# Altium integrated library Linear Technology Comparators.IntLib: 630 symbols (part 13 of 24)
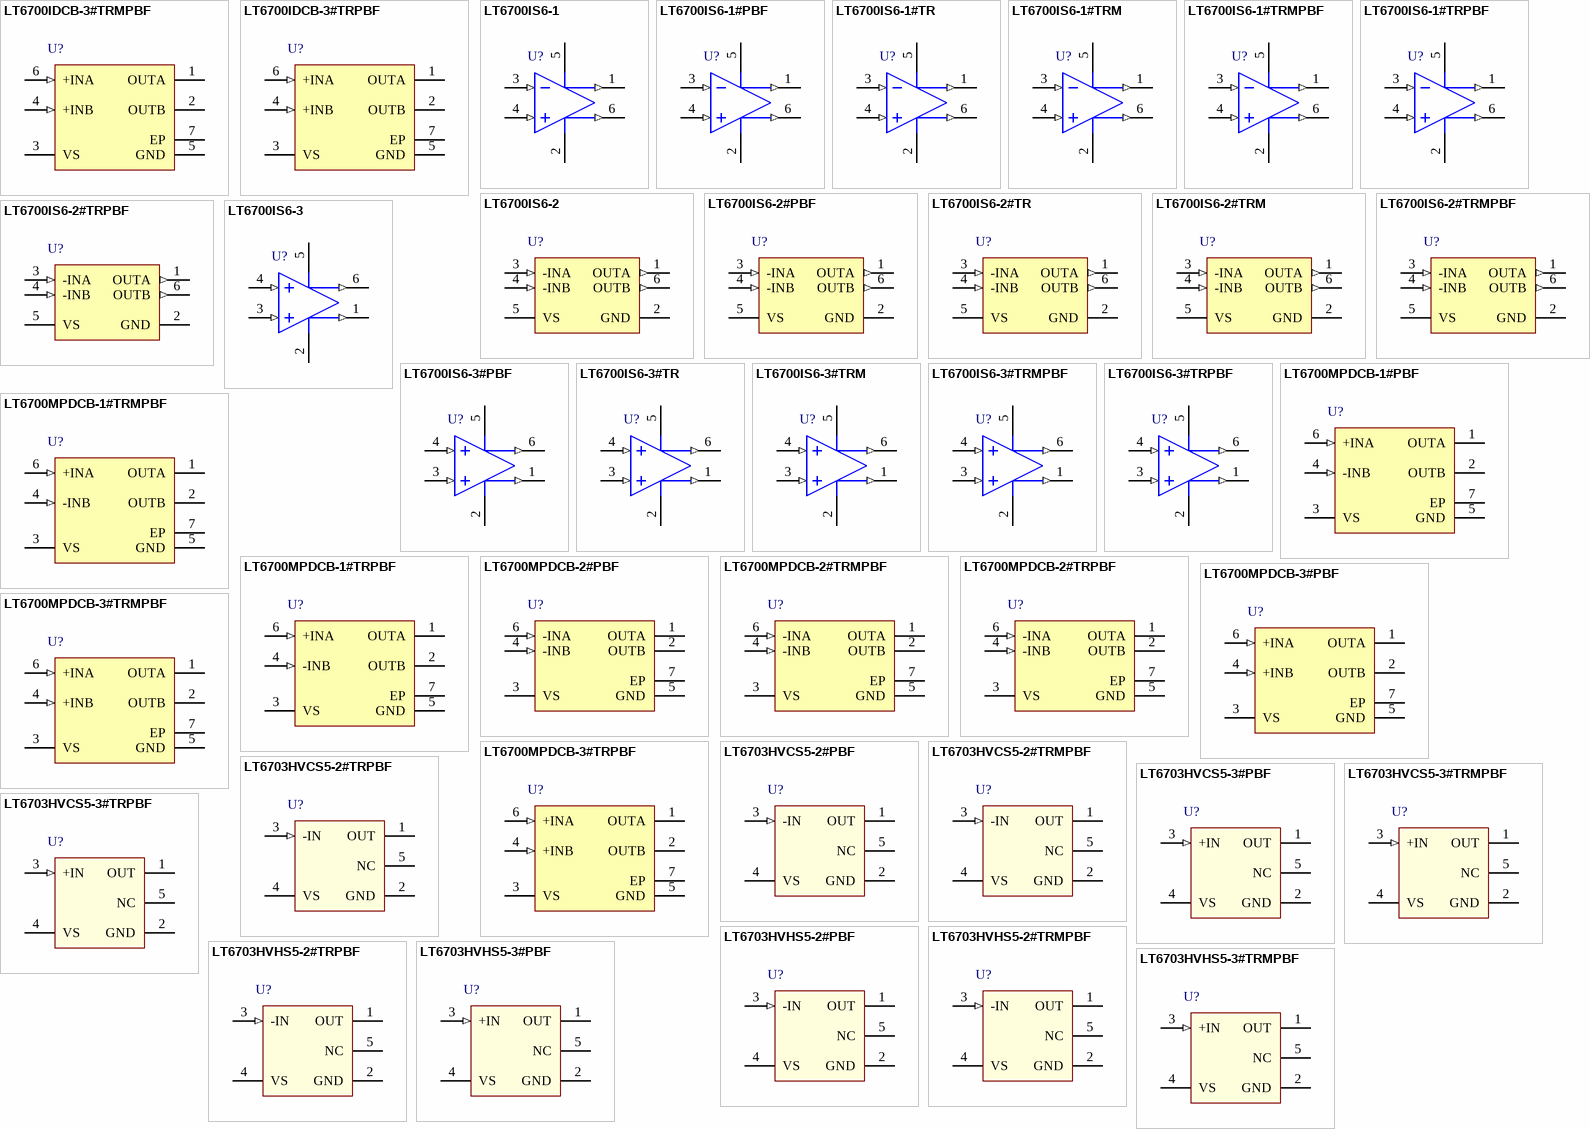
[diagram p36: symbols LT6700IDCB-3#TRMPBF to LT6703HVHS5-3#TRMPBF]

## LT6703HVCS5-3#PBF
designator U?
Micropower, Low Voltage Comparator with 400 mV Reference, 1 Channel, 1.4 to 36 V, 0 to +70 degC, 5-pin Plastic TSOT-23 (S5); Generic Part Number: LT6703HV-3; Manufacturer: Linear Technology; PartNumber: LT6703HVCS5-3#PBF; Channels (#): 1; Prop Delay (us): 18; Supply Current (uA) Guaranteed: 11; Supply Current (uA) Typical: 6.5; Vos (mV) Typical: 5; Vs Max (V): 36; Vs Min (V): 1.4; DatasheetVersion: Rev D; PackageReference: S5; PackageDescription: 5-Pin Plastic TSOT-23, Body 2.9 x 1.63 mm, Pitch 0.95 mm; Supplier 1: Newark; Supplier Part Number 1: 78T4307; Features: Comparator, Reference, Over-the-Top Inputs; RoHS: Y; Supply Voltage Range: 1.4 to 36 V; Mounting Technology: Surface Mount; Code_JEDEC: MO-193; ComponentLink1Description: Manufacturer URL; ComponentLink1URL: http://www.linear.com/; ComponentLink2Description: Datasheet; ComponentLink2URL: http://cds.linear.com/docs/en/datasheet/670323fd.pdf; ComponentLink3Description: Package Specification; ComponentLink3URL: http://cds.linear.com/docs/en/packaging/SOT_5_05-08-1635.pdf
footprint LT-S5_N (SOT-23, 5-Leads, Body 2.9x1.63mm, Pitch 0.95mm, IPC Medium Density)
footprint LT-S5_L (SOT-23, 5-Leads, Body 2.9x1.63mm, Pitch 0.95mm, IPC High Density)
footprint LT-S5_M (SOT-23, 5-Leads, Body 2.9x1.63mm, Pitch 0.95mm, IPC Low Density)
pins: 1 OUT (oc) "Open-Collector Output of Comparator. This pin provides drive for up to 40mA of load current. Off-state voltage may be as high as 36V above GND, regardless of VS used.", 2 GND (power) "Ground. This pin is also the low side return of the internal 400mV reference.", 3 +IN (in) "External Input for Comparator. The voltage on this pin can range from -0.3V to 36V with respect to GND regardless of VS used. The input is noninverting for the LT6703-3/LT6703HV-3, and inverting for the LT6703-2/LT6703HV-2. (See Datasheet)", 4 VS (power) "Supply Voltage. The parts are characterized for operation with 1.4V =< VS =< 18V with respect to GND.", 5 NC

## LT6703HVCS5-3#TRMPBF
designator U?
Micropower, Low Voltage Comparator with 400 mV Reference, 1 Channel, 1.4 to 36 V, 0 to +70 degC, 5-pin Plastic TSOT-23 (S5), Mini Tape and Reel; Generic Part Number: LT6703HV-3; Manufacturer: Linear Technology; PartNumber: LT6703HVCS5-3#TRMPBF; Channels (#): 1; Prop Delay (us): 18; Supply Current (uA) Guaranteed: 11; Supply Current (uA) Typical: 6.5; Vos (mV) Typical: 5; Vs Max (V): 36; Vs Min (V): 1.4; DatasheetVersion: Rev D; PackageReference: S5; PackageDescription: 5-Pin Plastic TSOT-23, Body 2.9 x 1.63 mm, Pitch 0.95 mm; Supplier 1: Digi-Key; Supplier Part Number 1: LT6703HVCS5-3#TRMPBF-ND; Supplier 2: Newark; Supplier Part Number 2: 02P7691; Features: Comparator, Reference, Over-the-Top Inputs; RoHS: Y; Supply Voltage Range: 1.4 to 36 V; Mounting Technology: Surface Mount; Code_JEDEC: MO-193; ComponentLink1Description: Manufacturer URL; ComponentLink1URL: http://www.linear.com/; ComponentLink2Description: Datasheet; ComponentLink2URL: http://cds.linear.com/docs/en/datasheet/670323fd.pdf; ComponentLink3Description: Package Specification; ComponentLink3URL: http://cds.linear.com/docs/en/packaging/SOT_5_05-08-1635.pdf
footprint LT-S5_N (SOT-23, 5-Leads, Body 2.9x1.63mm, Pitch 0.95mm, IPC Medium Density)
footprint LT-S5_L (SOT-23, 5-Leads, Body 2.9x1.63mm, Pitch 0.95mm, IPC High Density)
footprint LT-S5_M (SOT-23, 5-Leads, Body 2.9x1.63mm, Pitch 0.95mm, IPC Low Density)
pins: 1 OUT (oc) "Open-Collector Output of Comparator. This pin provides drive for up to 40mA of load current. Off-state voltage may be as high as 36V above GND, regardless of VS used.", 2 GND (power) "Ground. This pin is also the low side return of the internal 400mV reference.", 3 +IN (in) "External Input for Comparator. The voltage on this pin can range from -0.3V to 36V with respect to GND regardless of VS used. The input is noninverting for the LT6703-3/LT6703HV-3, and inverting for the LT6703-2/LT6703HV-2. (See Datasheet)", 4 VS (power) "Supply Voltage. The parts are characterized for operation with 1.4V =< VS =< 18V with respect to GND.", 5 NC

## LT6703HVCS5-3#TRPBF
designator U?
Micropower, Low Voltage Comparator with 400 mV Reference, 1 Channel, 1.4 to 36 V, 0 to +70 degC, 5-pin Plastic TSOT-23 (S5), Tape and Reel; Generic Part Number: LT6703HV-3; Manufacturer: Linear Technology; PartNumber: LT6703HVCS5-3#TRPBF; Channels (#): 1; Prop Delay (us): 18; Supply Current (uA) Guaranteed: 11; Supply Current (uA) Typical: 6.5; Vos (mV) Typical: 5; Vs Max (V): 36; Vs Min (V): 1.4; DatasheetVersion: Rev D; PackageReference: S5; PackageDescription: 5-Pin Plastic TSOT-23, Body 2.9 x 1.63 mm, Pitch 0.95 mm; Supplier 1: Digi-Key; Supplier Part Number 1: LT6703HVCS5-3#TRPBF-ND; Supplier 2: Newark; Supplier Part Number 2: 02P7692; Features: Comparator, Reference, Over-the-Top Inputs; RoHS: Y; Supply Voltage Range: 1.4 to 36 V; Mounting Technology: Surface Mount; Code_JEDEC: MO-193; ComponentLink1Description: Manufacturer URL; ComponentLink1URL: http://www.linear.com/; ComponentLink2Description: Datasheet; ComponentLink2URL: http://cds.linear.com/docs/en/datasheet/670323fd.pdf; ComponentLink3Description: Package Specification; ComponentLink3URL: http://cds.linear.com/docs/en/packaging/SOT_5_05-08-1635.pdf
footprint LT-S5_N (SOT-23, 5-Leads, Body 2.9x1.63mm, Pitch 0.95mm, IPC Medium Density)
footprint LT-S5_L (SOT-23, 5-Leads, Body 2.9x1.63mm, Pitch 0.95mm, IPC High Density)
footprint LT-S5_M (SOT-23, 5-Leads, Body 2.9x1.63mm, Pitch 0.95mm, IPC Low Density)
pins: 1 OUT (oc) "Open-Collector Output of Comparator. This pin provides drive for up to 40mA of load current. Off-state voltage may be as high as 36V above GND, regardless of VS used.", 2 GND (power) "Ground. This pin is also the low side return of the internal 400mV reference.", 3 +IN (in) "External Input for Comparator. The voltage on this pin can range from -0.3V to 36V with respect to GND regardless of VS used. The input is noninverting for the LT6703-3/LT6703HV-3, and inverting for the LT6703-2/LT6703HV-2. (See Datasheet)", 4 VS (power) "Supply Voltage. The parts are characterized for operation with 1.4V =< VS =< 18V with respect to GND.", 5 NC

## LT6703HVHS5-2#PBF
designator U?
Micropower, Low Voltage Comparator with 400 mV Reference, 1 Channel, 1.4 to 36 V, -40 to +125 degC, 5-pin Plastic TSOT-23 (S5); Generic Part Number: LT6703HV-2; Manufacturer: Linear Technology; PartNumber: LT6703HVHS5-2#PBF; Channels (#): 1; Prop Delay (us): 18; Supply Current (uA) Guaranteed: 11; Supply Current (uA) Typical: 6.5; Vos (mV) Typical: 5; Vs Max (V): 36; Vs Min (V): 1.4; DatasheetVersion: Rev D; PackageReference: S5; PackageDescription: 5-Pin Plastic TSOT-23, Body 2.9 x 1.63 mm, Pitch 0.95 mm; Features: Comparator, Reference, Over-the-Top Inputs; RoHS: Y; Supply Voltage Range: 1.4 to 36 V; Mounting Technology: Surface Mount; Code_JEDEC: MO-193; ComponentLink1Description: Manufacturer URL; ComponentLink1URL: http://www.linear.com/; ComponentLink2Description: Datasheet; ComponentLink2URL: http://cds.linear.com/docs/en/datasheet/670323fd.pdf; ComponentLink3Description: Package Specification; ComponentLink3URL: http://cds.linear.com/docs/en/packaging/SOT_5_05-08-1635.pdf
footprint LT-S5_N (SOT-23, 5-Leads, Body 2.9x1.63mm, Pitch 0.95mm, IPC Medium Density)
footprint LT-S5_L (SOT-23, 5-Leads, Body 2.9x1.63mm, Pitch 0.95mm, IPC High Density)
footprint LT-S5_M (SOT-23, 5-Leads, Body 2.9x1.63mm, Pitch 0.95mm, IPC Low Density)
pins: 1 OUT (oc) "Open-Collector Output of Comparator. This pin provides drive for up to 40mA of load current. Off-state voltage may be as high as 36V above GND, regardless of VS used.", 2 GND (power) "Ground. This pin is also the low side return of the internal 400mV reference.", 3 -IN (in) "External Input for Comparator. The voltage on this pin can range from -0.3V to 36V with respect to GND regardless of VS used. The input is noninverting for the LT6703-3/LT6703HV-3, and inverting for the LT6703-2/LT6703HV-2. (See Datasheet)", 4 VS (power) "Supply Voltage. The parts are characterized for operation with 1.4V =< VS =< 18V with respect to GND", 5 NC

## LT6703HVHS5-2#TRMPBF
designator U?
Micropower, Low Voltage Comparator with 400 mV Reference, 1 Channel, 1.4 to 36 V, -40 to +125 degC, 5-pin Plastic TSOT-23 (S5), Mini Tape and Reel; Generic Part Number: LT6703HV-2; Manufacturer: Linear Technology; PartNumber: LT6703HVHS5-2#TRMPBF; Channels (#): 1; Prop Delay (us): 18; Supply Current (uA) Guaranteed: 11; Supply Current (uA) Typical: 6.5; Vos (mV) Typical: 5; Vs Max (V): 36; Vs Min (V): 1.4; DatasheetVersion: Rev D; PackageReference: S5; PackageDescription: 5-Pin Plastic TSOT-23, Body 2.9 x 1.63 mm, Pitch 0.95 mm; Supplier 1: Digi-Key; Supplier Part Number 1: LT6703HVHS5-2#TRMPBF-ND; Supplier 2: Newark; Supplier Part Number 2: 02P7693; Features: Comparator, Reference, Over-the-Top Inputs; RoHS: Y; Supply Voltage Range: 1.4 to 36 V; Mounting Technology: Surface Mount; Code_JEDEC: MO-193; ComponentLink1Description: Manufacturer URL; ComponentLink1URL: http://www.linear.com/; ComponentLink2Description: Datasheet; ComponentLink2URL: http://cds.linear.com/docs/en/datasheet/670323fd.pdf; ComponentLink3Description: Package Specification; ComponentLink3URL: http://cds.linear.com/docs/en/packaging/SOT_5_05-08-1635.pdf
footprint LT-S5_N (SOT-23, 5-Leads, Body 2.9x1.63mm, Pitch 0.95mm, IPC Medium Density)
footprint LT-S5_L (SOT-23, 5-Leads, Body 2.9x1.63mm, Pitch 0.95mm, IPC High Density)
footprint LT-S5_M (SOT-23, 5-Leads, Body 2.9x1.63mm, Pitch 0.95mm, IPC Low Density)
pins: 1 OUT (oc) "Open-Collector Output of Comparator. This pin provides drive for up to 40mA of load current. Off-state voltage may be as high as 36V above GND, regardless of VS used.", 2 GND (power) "Ground. This pin is also the low side return of the internal 400mV reference.", 3 -IN (in) "External Input for Comparator. The voltage on this pin can range from -0.3V to 36V with respect to GND regardless of VS used. The input is noninverting for the LT6703-3/LT6703HV-3, and inverting for the LT6703-2/LT6703HV-2. (See Datasheet)", 4 VS (power) "Supply Voltage. The parts are characterized for operation with 1.4V =< VS =< 18V with respect to GND", 5 NC

## LT6703HVHS5-2#TRPBF
designator U?
Micropower, Low Voltage Comparator with 400 mV Reference, 1 Channel, 1.4 to 36 V, -40 to +125 degC, 5-pin Plastic TSOT-23 (S5), Tape and Reel; Generic Part Number: LT6703HV-2; Manufacturer: Linear Technology; PartNumber: LT6703HVHS5-2#TRPBF; Channels (#): 1; Prop Delay (us): 18; Supply Current (uA) Guaranteed: 11; Supply Current (uA) Typical: 6.5; Vos (mV) Typical: 5; Vs Max (V): 36; Vs Min (V): 1.4; DatasheetVersion: Rev D; PackageReference: S5; PackageDescription: 5-Pin Plastic TSOT-23, Body 2.9 x 1.63 mm, Pitch 0.95 mm; Supplier 1: Digi-Key; Supplier Part Number 1: LT6703HVHS5-2#TRPBF-ND; Supplier 2: Newark; Supplier Part Number 2: 02P7694; Features: Comparator, Reference, Over-the-Top Inputs; RoHS: Y; Supply Voltage Range: 1.4 to 36 V; Mounting Technology: Surface Mount; Code_JEDEC: MO-193; ComponentLink1Description: Manufacturer URL; ComponentLink1URL: http://www.linear.com/; ComponentLink2Description: Datasheet; ComponentLink2URL: http://cds.linear.com/docs/en/datasheet/670323fd.pdf; ComponentLink3Description: Package Specification; ComponentLink3URL: http://cds.linear.com/docs/en/packaging/SOT_5_05-08-1635.pdf
footprint LT-S5_N (SOT-23, 5-Leads, Body 2.9x1.63mm, Pitch 0.95mm, IPC Medium Density)
footprint LT-S5_L (SOT-23, 5-Leads, Body 2.9x1.63mm, Pitch 0.95mm, IPC High Density)
footprint LT-S5_M (SOT-23, 5-Leads, Body 2.9x1.63mm, Pitch 0.95mm, IPC Low Density)
pins: 1 OUT (oc) "Open-Collector Output of Comparator. This pin provides drive for up to 40mA of load current. Off-state voltage may be as high as 36V above GND, regardless of VS used.", 2 GND (power) "Ground. This pin is also the low side return of the internal 400mV reference.", 3 -IN (in) "External Input for Comparator. The voltage on this pin can range from -0.3V to 36V with respect to GND regardless of VS used. The input is noninverting for the LT6703-3/LT6703HV-3, and inverting for the LT6703-2/LT6703HV-2. (See Datasheet)", 4 VS (power) "Supply Voltage. The parts are characterized for operation with 1.4V =< VS =< 18V with respect to GND", 5 NC

## LT6703HVHS5-3#PBF
designator U?
Micropower, Low Voltage Comparator with 400 mV Reference, 1 Channel, 1.4 to 36 V, -40 to +125 degC, 5-pin Plastic TSOT-23 (S5); Generic Part Number: LT6703HV-3; Manufacturer: Linear Technology; PartNumber: LT6703HVHS5-3#PBF; Channels (#): 1; Prop Delay (us): 18; Supply Current (uA) Guaranteed: 11; Supply Current (uA) Typical: 6.5; Vos (mV) Typical: 5; Vs Max (V): 36; Vs Min (V): 1.4; DatasheetVersion: Rev D; PackageReference: S5; PackageDescription: 5-Pin Plastic TSOT-23, Body 2.9 x 1.63 mm, Pitch 0.95 mm; Features: Comparator, Reference, Over-the-Top Inputs; RoHS: Y; Supply Voltage Range: 1.4 to 36 V; Mounting Technology: Surface Mount; Code_JEDEC: MO-193; ComponentLink1Description: Manufacturer URL; ComponentLink1URL: http://www.linear.com/; ComponentLink2Description: Datasheet; ComponentLink2URL: http://cds.linear.com/docs/en/datasheet/670323fd.pdf; ComponentLink3Description: Package Specification; ComponentLink3URL: http://cds.linear.com/docs/en/packaging/SOT_5_05-08-1635.pdf
footprint LT-S5_N (SOT-23, 5-Leads, Body 2.9x1.63mm, Pitch 0.95mm, IPC Medium Density)
footprint LT-S5_L (SOT-23, 5-Leads, Body 2.9x1.63mm, Pitch 0.95mm, IPC High Density)
footprint LT-S5_M (SOT-23, 5-Leads, Body 2.9x1.63mm, Pitch 0.95mm, IPC Low Density)
pins: 1 OUT (oc) "Open-Collector Output of Comparator. This pin provides drive for up to 40mA of load current. Off-state voltage may be as high as 36V above GND, regardless of VS used.", 2 GND (power) "Ground. This pin is also the low side return of the internal 400mV reference.", 3 +IN (in) "External Input for Comparator. The voltage on this pin can range from -0.3V to 36V with respect to GND regardless of VS used. The input is noninverting for the LT6703-3/LT6703HV-3, and inverting for the LT6703-2/LT6703HV-2. (See Datasheet)", 4 VS (power) "Supply Voltage. The parts are characterized for operation with 1.4V =< VS =< 18V with respect to GND.", 5 NC

## LT6703HVHS5-3#TRMPBF
designator U?
Micropower, Low Voltage Comparator with 400 mV Reference, 1 Channel, 1.4 to 36 V, -40 to +125 degC, 5-pin Plastic TSOT-23 (S5), Mini Tape and Reel; Generic Part Number: LT6703HV-3; Manufacturer: Linear Technology; PartNumber: LT6703HVHS5-3#TRMPBF; Channels (#): 1; Prop Delay (us): 18; Supply Current (uA) Guaranteed: 11; Supply Current (uA) Typical: 6.5; Vos (mV) Typical: 5; Vs Max (V): 36; Vs Min (V): 1.4; DatasheetVersion: Rev D; PackageReference: S5; PackageDescription: 5-Pin Plastic TSOT-23, Body 2.9 x 1.63 mm, Pitch 0.95 mm; Supplier 1: Digi-Key; Supplier Part Number 1: LT6703HVHS5-3#TRMPBF-ND; Supplier 2: Newark; Supplier Part Number 2: 02P7695; Features: Comparator, Reference, Over-the-Top Inputs; RoHS: Y; Supply Voltage Range: 1.4 to 36 V; Mounting Technology: Surface Mount; Code_JEDEC: MO-193; ComponentLink1Description: Manufacturer URL; ComponentLink1URL: http://www.linear.com/; ComponentLink2Description: Datasheet; ComponentLink2URL: http://cds.linear.com/docs/en/datasheet/670323fd.pdf; ComponentLink3Description: Package Specification; ComponentLink3URL: http://cds.linear.com/docs/en/packaging/SOT_5_05-08-1635.pdf
footprint LT-S5_N (SOT-23, 5-Leads, Body 2.9x1.63mm, Pitch 0.95mm, IPC Medium Density)
footprint LT-S5_L (SOT-23, 5-Leads, Body 2.9x1.63mm, Pitch 0.95mm, IPC High Density)
footprint LT-S5_M (SOT-23, 5-Leads, Body 2.9x1.63mm, Pitch 0.95mm, IPC Low Density)
pins: 1 OUT (oc) "Open-Collector Output of Comparator. This pin provides drive for up to 40mA of load current. Off-state voltage may be as high as 36V above GND, regardless of VS used.", 2 GND (power) "Ground. This pin is also the low side return of the internal 400mV reference.", 3 +IN (in) "External Input for Comparator. The voltage on this pin can range from -0.3V to 36V with respect to GND regardless of VS used. The input is noninverting for the LT6703-3/LT6703HV-3, and inverting for the LT6703-2/LT6703HV-2. (See Datasheet)", 4 VS (power) "Supply Voltage. The parts are characterized for operation with 1.4V =< VS =< 18V with respect to GND.", 5 NC

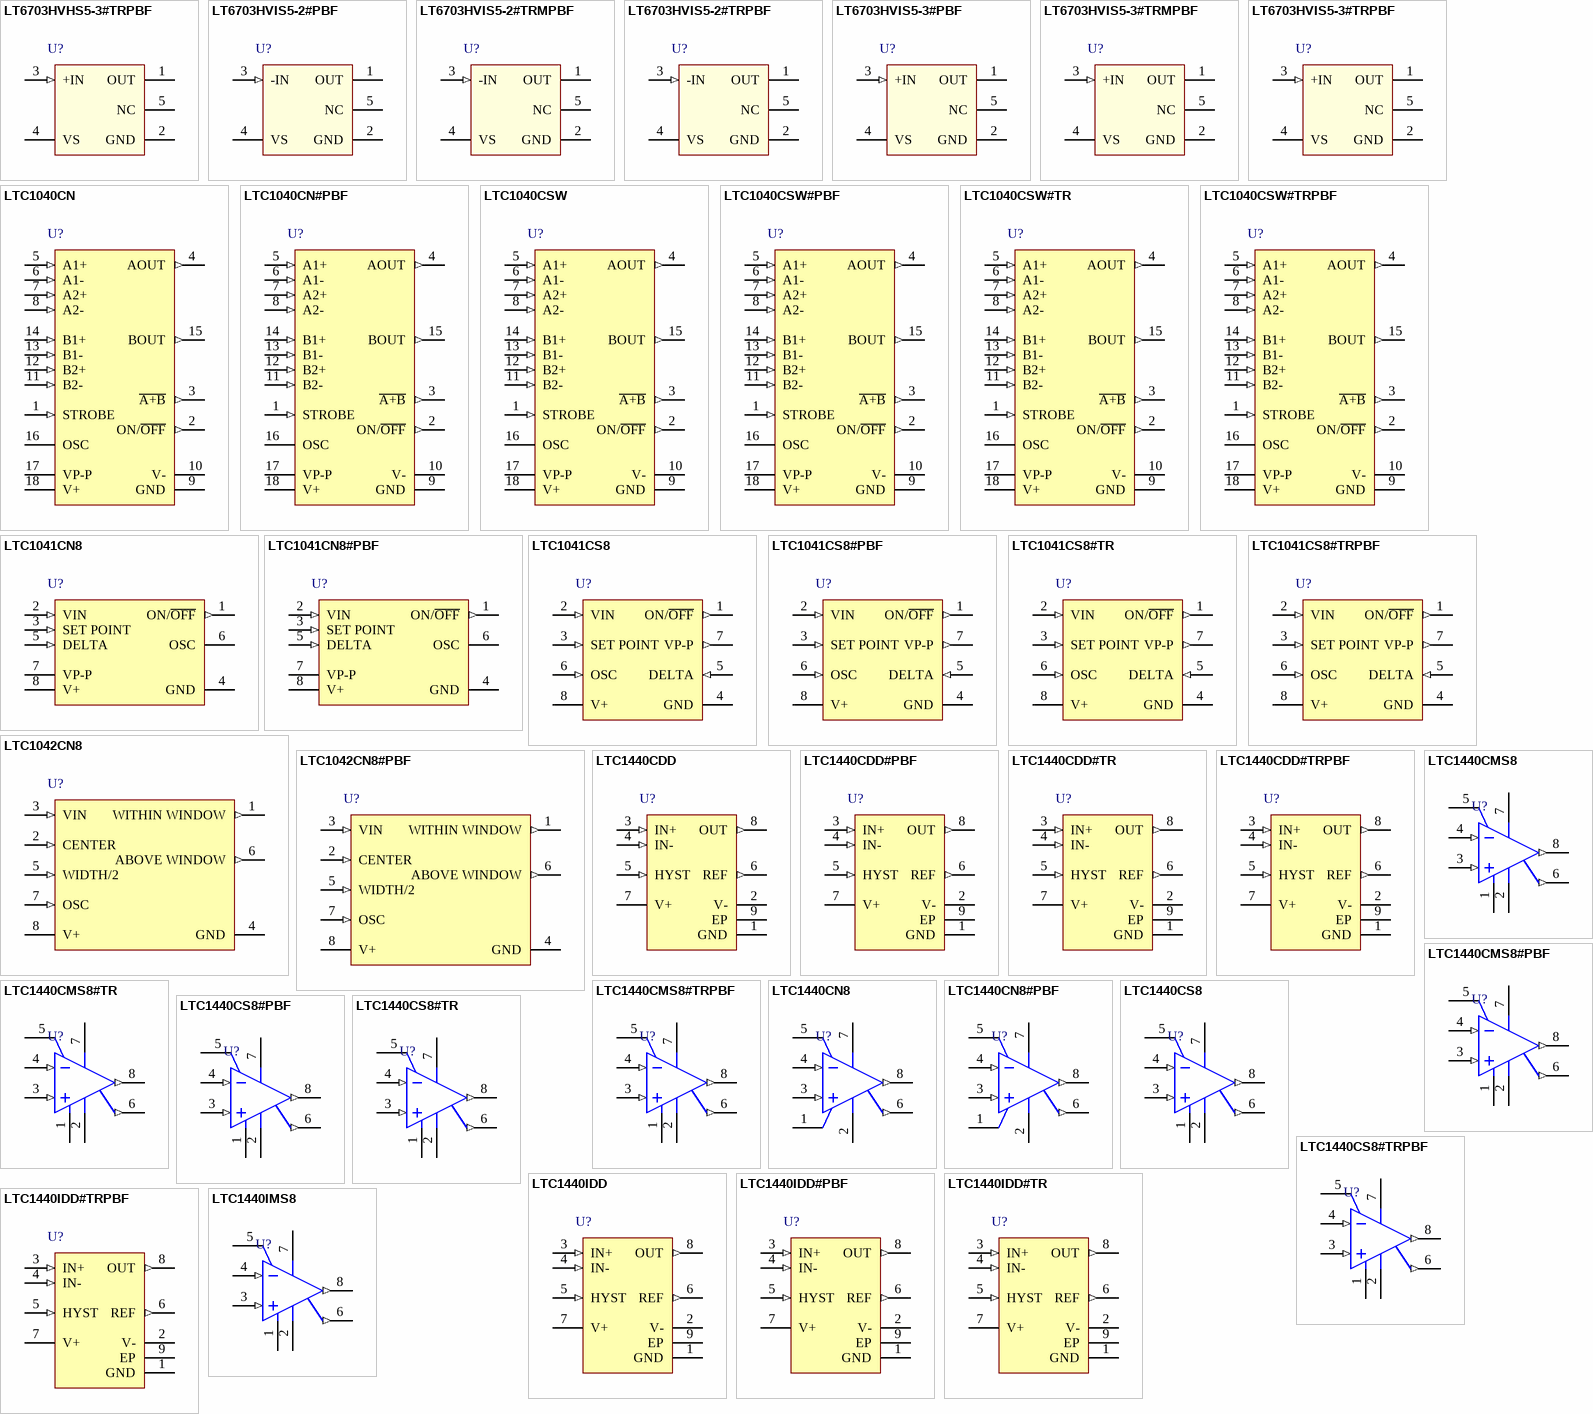
[diagram p12: symbols LT6703HVHS5-3#TRPBF to LTC1440IMS8]

## LT6703HVHS5-3#TRPBF
designator U?
Micropower, Low Voltage Comparator with 400 mV Reference, 1 Channel, 1.4 to 36 V, -40 to +125 degC, 5-pin Plastic TSOT-23 (S5), Tape and Reel; Generic Part Number: LT6703HV-3; Manufacturer: Linear Technology; PartNumber: LT6703HVHS5-3#TRPBF; Channels (#): 1; Prop Delay (us): 18; Supply Current (uA) Guaranteed: 11; Supply Current (uA) Typical: 6.5; Vos (mV) Typical: 5; Vs Max (V): 36; Vs Min (V): 1.4; DatasheetVersion: Rev D; PackageReference: S5; PackageDescription: 5-Pin Plastic TSOT-23, Body 2.9 x 1.63 mm, Pitch 0.95 mm; Supplier 1: Digi-Key; Supplier Part Number 1: LT6703HVHS5-3#TRPBF-ND; Features: Comparator, Reference, Over-the-Top Inputs; RoHS: Y; Supply Voltage Range: 1.4 to 36 V; Mounting Technology: Surface Mount; Code_JEDEC: MO-193; ComponentLink1Description: Manufacturer URL; ComponentLink1URL: http://www.linear.com/; ComponentLink2Description: Datasheet; ComponentLink2URL: http://cds.linear.com/docs/en/datasheet/670323fd.pdf; ComponentLink3Description: Package Specification; ComponentLink3URL: http://cds.linear.com/docs/en/packaging/SOT_5_05-08-1635.pdf
footprint LT-S5_N (SOT-23, 5-Leads, Body 2.9x1.63mm, Pitch 0.95mm, IPC Medium Density)
footprint LT-S5_L (SOT-23, 5-Leads, Body 2.9x1.63mm, Pitch 0.95mm, IPC High Density)
footprint LT-S5_M (SOT-23, 5-Leads, Body 2.9x1.63mm, Pitch 0.95mm, IPC Low Density)
pins: 1 OUT (oc) "Open-Collector Output of Comparator. This pin provides drive for up to 40mA of load current. Off-state voltage may be as high as 36V above GND, regardless of VS used.", 2 GND (power) "Ground. This pin is also the low side return of the internal 400mV reference.", 3 +IN (in) "External Input for Comparator. The voltage on this pin can range from -0.3V to 36V with respect to GND regardless of VS used. The input is noninverting for the LT6703-3/LT6703HV-3, and inverting for the LT6703-2/LT6703HV-2. (See Datasheet)", 4 VS (power) "Supply Voltage. The parts are characterized for operation with 1.4V =< VS =< 18V with respect to GND.", 5 NC

## LT6703HVIS5-2#PBF
designator U?
Micropower, Low Voltage Comparator with 400 mV Reference, 1 Channel, 1.4 to 36 V, -40 to +85 degC, 5-pin Plastic TSOT-23 (S5); Generic Part Number: LT6703HV-2; Manufacturer: Linear Technology; PartNumber: LT6703HVIS5-2#PBF; Channels (#): 1; Prop Delay (us): 18; Supply Current (uA) Guaranteed: 11; Supply Current (uA) Typical: 6.5; Vos (mV) Typical: 5; Vs Max (V): 36; Vs Min (V): 1.4; DatasheetVersion: Rev D; PackageReference: S5; PackageDescription: 5-Pin Plastic TSOT-23, Body 2.9 x 1.63 mm, Pitch 0.95 mm; Features: Comparator, Reference, Over-the-Top Inputs; RoHS: Y; Supply Voltage Range: 1.4 to 36 V; Mounting Technology: Surface Mount; Code_JEDEC: MO-193; ComponentLink1Description: Manufacturer URL; ComponentLink1URL: http://www.linear.com/; ComponentLink2Description: Datasheet; ComponentLink2URL: http://cds.linear.com/docs/en/datasheet/670323fd.pdf; ComponentLink3Description: Package Specification; ComponentLink3URL: http://cds.linear.com/docs/en/packaging/SOT_5_05-08-1635.pdf
footprint LT-S5_N (SOT-23, 5-Leads, Body 2.9x1.63mm, Pitch 0.95mm, IPC Medium Density)
footprint LT-S5_L (SOT-23, 5-Leads, Body 2.9x1.63mm, Pitch 0.95mm, IPC High Density)
footprint LT-S5_M (SOT-23, 5-Leads, Body 2.9x1.63mm, Pitch 0.95mm, IPC Low Density)
pins: 1 OUT (oc) "Open-Collector Output of Comparator. This pin provides drive for up to 40mA of load current. Off-state voltage may be as high as 36V above GND, regardless of VS used.", 2 GND (power) "Ground. This pin is also the low side return of the internal 400mV reference.", 3 -IN (in) "External Input for Comparator. The voltage on this pin can range from -0.3V to 36V with respect to GND regardless of VS used. The input is noninverting for the LT6703-3/LT6703HV-3, and inverting for the LT6703-2/LT6703HV-2. (See Datasheet)", 4 VS (power) "Supply Voltage. The parts are characterized for operation with 1.4V =< VS =< 18V with respect to GND", 5 NC

## LT6703HVIS5-2#TRMPBF
designator U?
Micropower, Low Voltage Comparator with 400 mV Reference, 1 Channel, 1.4 to 36 V, -40 to +85 degC, 5-pin Plastic TSOT-23 (S5), Mini Tape and Reel; Generic Part Number: LT6703HV-2; Manufacturer: Linear Technology; PartNumber: LT6703HVIS5-2#TRMPBF; Channels (#): 1; Prop Delay (us): 18; Supply Current (uA) Guaranteed: 11; Supply Current (uA) Typical: 6.5; Vos (mV) Typical: 5; Vs Max (V): 36; Vs Min (V): 1.4; DatasheetVersion: Rev D; PackageReference: S5; PackageDescription: 5-Pin Plastic TSOT-23, Body 2.9 x 1.63 mm, Pitch 0.95 mm; Supplier 1: Digi-Key; Supplier Part Number 1: LT6703HVIS5-2#TRMPBF-ND; Supplier 2: Newark; Supplier Part Number 2: 15N5503; Features: Comparator, Reference, Over-the-Top Inputs; RoHS: Y; Supply Voltage Range: 1.4 to 36 V; Mounting Technology: Surface Mount; Code_JEDEC: MO-193; ComponentLink1Description: Manufacturer URL; ComponentLink1URL: http://www.linear.com/; ComponentLink2Description: Datasheet; ComponentLink2URL: http://cds.linear.com/docs/en/datasheet/670323fd.pdf; ComponentLink3Description: Package Specification; ComponentLink3URL: http://cds.linear.com/docs/en/packaging/SOT_5_05-08-1635.pdf
footprint LT-S5_N (SOT-23, 5-Leads, Body 2.9x1.63mm, Pitch 0.95mm, IPC Medium Density)
footprint LT-S5_L (SOT-23, 5-Leads, Body 2.9x1.63mm, Pitch 0.95mm, IPC High Density)
footprint LT-S5_M (SOT-23, 5-Leads, Body 2.9x1.63mm, Pitch 0.95mm, IPC Low Density)
pins: 1 OUT (oc) "Open-Collector Output of Comparator. This pin provides drive for up to 40mA of load current. Off-state voltage may be as high as 36V above GND, regardless of VS used.", 2 GND (power) "Ground. This pin is also the low side return of the internal 400mV reference.", 3 -IN (in) "External Input for Comparator. The voltage on this pin can range from -0.3V to 36V with respect to GND regardless of VS used. The input is noninverting for the LT6703-3/LT6703HV-3, and inverting for the LT6703-2/LT6703HV-2. (See Datasheet)", 4 VS (power) "Supply Voltage. The parts are characterized for operation with 1.4V =< VS =< 18V with respect to GND", 5 NC

## LT6703HVIS5-2#TRPBF
designator U?
Micropower, Low Voltage Comparator with 400 mV Reference, 1 Channel, 1.4 to 36 V, -40 to +85 degC, 5-pin Plastic TSOT-23 (S5), Tape and Reel; Generic Part Number: LT6703HV-2; Manufacturer: Linear Technology; PartNumber: LT6703HVIS5-2#TRPBF; Channels (#): 1; Prop Delay (us): 18; Supply Current (uA) Guaranteed: 11; Supply Current (uA) Typical: 6.5; Vos (mV) Typical: 5; Vs Max (V): 36; Vs Min (V): 1.4; DatasheetVersion: Rev D; PackageReference: S5; PackageDescription: 5-Pin Plastic TSOT-23, Body 2.9 x 1.63 mm, Pitch 0.95 mm; Supplier 1: Digi-Key; Supplier Part Number 1: LT6703HVIS5-2#TRPBF-ND; Supplier 2: Newark; Supplier Part Number 2: 15N5504; Features: Comparator, Reference, Over-the-Top Inputs; RoHS: Y; Supply Voltage Range: 1.4 to 36 V; Mounting Technology: Surface Mount; Code_JEDEC: MO-193; ComponentLink1Description: Manufacturer URL; ComponentLink1URL: http://www.linear.com/; ComponentLink2Description: Datasheet; ComponentLink2URL: http://cds.linear.com/docs/en/datasheet/670323fd.pdf; ComponentLink3Description: Package Specification; ComponentLink3URL: http://cds.linear.com/docs/en/packaging/SOT_5_05-08-1635.pdf
footprint LT-S5_N (SOT-23, 5-Leads, Body 2.9x1.63mm, Pitch 0.95mm, IPC Medium Density)
footprint LT-S5_L (SOT-23, 5-Leads, Body 2.9x1.63mm, Pitch 0.95mm, IPC High Density)
footprint LT-S5_M (SOT-23, 5-Leads, Body 2.9x1.63mm, Pitch 0.95mm, IPC Low Density)
pins: 1 OUT (oc) "Open-Collector Output of Comparator. This pin provides drive for up to 40mA of load current. Off-state voltage may be as high as 36V above GND, regardless of VS used.", 2 GND (power) "Ground. This pin is also the low side return of the internal 400mV reference.", 3 -IN (in) "External Input for Comparator. The voltage on this pin can range from -0.3V to 36V with respect to GND regardless of VS used. The input is noninverting for the LT6703-3/LT6703HV-3, and inverting for the LT6703-2/LT6703HV-2. (See Datasheet)", 4 VS (power) "Supply Voltage. The parts are characterized for operation with 1.4V =< VS =< 18V with respect to GND", 5 NC

## LT6703HVIS5-3#PBF
designator U?
Micropower, Low Voltage Comparator with 400 mV Reference, 1 Channel, 1.4 to 36 V, -40 to +85 degC, 5-pin Plastic TSOT-23 (S5); Generic Part Number: LT6703HV-3; Manufacturer: Linear Technology; PartNumber: LT6703HVIS5-3#PBF; Channels (#): 1; Prop Delay (us): 18; Supply Current (uA) Guaranteed: 11; Supply Current (uA) Typical: 6.5; Vos (mV) Typical: 5; Vs Max (V): 36; Vs Min (V): 1.4; DatasheetVersion: Rev D; PackageReference: S5; PackageDescription: 5-Pin Plastic TSOT-23, Body 2.9 x 1.63 mm, Pitch 0.95 mm; Supplier 1: Farnell; Supplier Part Number 1: 2294787; Supplier 2: Newark; Supplier Part Number 2: 78T4310; Features: Comparator, Reference, Over-the-Top Inputs; RoHS: Y; Supply Voltage Range: 1.4 to 36 V; Mounting Technology: Surface Mount; Code_JEDEC: MO-193; ComponentLink1Description: Manufacturer URL; ComponentLink1URL: http://www.linear.com/; ComponentLink2Description: Datasheet; ComponentLink2URL: http://cds.linear.com/docs/en/datasheet/670323fd.pdf; ComponentLink3Description: Package Specification; ComponentLink3URL: http://cds.linear.com/docs/en/packaging/SOT_5_05-08-1635.pdf
footprint LT-S5_N (SOT-23, 5-Leads, Body 2.9x1.63mm, Pitch 0.95mm, IPC Medium Density)
footprint LT-S5_L (SOT-23, 5-Leads, Body 2.9x1.63mm, Pitch 0.95mm, IPC High Density)
footprint LT-S5_M (SOT-23, 5-Leads, Body 2.9x1.63mm, Pitch 0.95mm, IPC Low Density)
pins: 1 OUT (oc) "Open-Collector Output of Comparator. This pin provides drive for up to 40mA of load current. Off-state voltage may be as high as 36V above GND, regardless of VS used.", 2 GND (power) "Ground. This pin is also the low side return of the internal 400mV reference.", 3 +IN (in) "External Input for Comparator. The voltage on this pin can range from -0.3V to 36V with respect to GND regardless of VS used. The input is noninverting for the LT6703-3/LT6703HV-3, and inverting for the LT6703-2/LT6703HV-2. (See Datasheet)", 4 VS (power) "Supply Voltage. The parts are characterized for operation with 1.4V =< VS =< 18V with respect to GND.", 5 NC

## LT6703HVIS5-3#TRMPBF
designator U?
Micropower, Low Voltage Comparator with 400 mV Reference, 1 Channel, 1.4 to 36 V, -40 to +85 degC, 5-pin Plastic TSOT-23 (S5), Mini Tape and Reel; Generic Part Number: LT6703HV-3; Manufacturer: Linear Technology; PartNumber: LT6703HVIS5-3#TRMPBF; Channels (#): 1; Prop Delay (us): 18; Supply Current (uA) Guaranteed: 11; Supply Current (uA) Typical: 6.5; Vos (mV) Typical: 5; Vs Max (V): 36; Vs Min (V): 1.4; DatasheetVersion: Rev D; PackageReference: S5; PackageDescription: 5-Pin Plastic TSOT-23, Body 2.9 x 1.63 mm, Pitch 0.95 mm; Supplier 1: Digi-Key; Supplier Part Number 1: LT6703HVIS5-3#TRMPBFTR-ND; Supplier 2: Digi-Key; Supplier Part Number 2: LT6703HVIS5-3#TRMPBFCT-ND; Supplier 3: Digi-Key; Supplier Part Number 3: LT6703HVIS5-3#TRMPBFDKR-ND; Supplier 4: Newark; Supplier Part Number 4: 15N5505; Features: Comparator, Reference, Over-the-Top Inputs; RoHS: Y; Supply Voltage Range: 1.4 to 36 V; Mounting Technology: Surface Mount; Code_JEDEC: MO-193; ComponentLink1Description: Manufacturer URL; ComponentLink1URL: http://www.linear.com/; ComponentLink2Description: Datasheet; ComponentLink2URL: http://cds.linear.com/docs/en/datasheet/670323fd.pdf; ComponentLink3Description: Package Specification; ComponentLink3URL: http://cds.linear.com/docs/en/packaging/SOT_5_05-08-1635.pdf
footprint LT-S5_N (SOT-23, 5-Leads, Body 2.9x1.63mm, Pitch 0.95mm, IPC Medium Density)
footprint LT-S5_L (SOT-23, 5-Leads, Body 2.9x1.63mm, Pitch 0.95mm, IPC High Density)
footprint LT-S5_M (SOT-23, 5-Leads, Body 2.9x1.63mm, Pitch 0.95mm, IPC Low Density)
pins: 1 OUT (oc) "Open-Collector Output of Comparator. This pin provides drive for up to 40mA of load current. Off-state voltage may be as high as 36V above GND, regardless of VS used.", 2 GND (power) "Ground. This pin is also the low side return of the internal 400mV reference.", 3 +IN (in) "External Input for Comparator. The voltage on this pin can range from -0.3V to 36V with respect to GND regardless of VS used. The input is noninverting for the LT6703-3/LT6703HV-3, and inverting for the LT6703-2/LT6703HV-2. (See Datasheet)", 4 VS (power) "Supply Voltage. The parts are characterized for operation with 1.4V =< VS =< 18V with respect to GND.", 5 NC

## LT6703HVIS5-3#TRPBF
designator U?
Micropower, Low Voltage Comparator with 400 mV Reference, 1 Channel, 1.4 to 36 V, -40 to +85 degC, 5-pin Plastic TSOT-23 (S5), Tape and Reel; Generic Part Number: LT6703HV-3; Manufacturer: Linear Technology; PartNumber: LT6703HVIS5-3#TRPBF; Channels (#): 1; Prop Delay (us): 18; Supply Current (uA) Guaranteed: 11; Supply Current (uA) Typical: 6.5; Vos (mV) Typical: 5; Vs Max (V): 36; Vs Min (V): 1.4; DatasheetVersion: Rev D; PackageReference: S5; PackageDescription: 5-Pin Plastic TSOT-23, Body 2.9 x 1.63 mm, Pitch 0.95 mm; Supplier 1: Digi-Key; Supplier Part Number 1: LT6703HVIS5-3#TRPBF-ND; Supplier 2: Newark; Supplier Part Number 2: 15N5506; Features: Comparator, Reference, Over-the-Top Inputs; RoHS: Y; Supply Voltage Range: 1.4 to 36 V; Mounting Technology: Surface Mount; Code_JEDEC: MO-193; ComponentLink1Description: Manufacturer URL; ComponentLink1URL: http://www.linear.com/; ComponentLink2Description: Datasheet; ComponentLink2URL: http://cds.linear.com/docs/en/datasheet/670323fd.pdf; ComponentLink3Description: Package Specification; ComponentLink3URL: http://cds.linear.com/docs/en/packaging/SOT_5_05-08-1635.pdf
footprint LT-S5_N (SOT-23, 5-Leads, Body 2.9x1.63mm, Pitch 0.95mm, IPC Medium Density)
footprint LT-S5_L (SOT-23, 5-Leads, Body 2.9x1.63mm, Pitch 0.95mm, IPC High Density)
footprint LT-S5_M (SOT-23, 5-Leads, Body 2.9x1.63mm, Pitch 0.95mm, IPC Low Density)
pins: 1 OUT (oc) "Open-Collector Output of Comparator. This pin provides drive for up to 40mA of load current. Off-state voltage may be as high as 36V above GND, regardless of VS used.", 2 GND (power) "Ground. This pin is also the low side return of the internal 400mV reference.", 3 +IN (in) "External Input for Comparator. The voltage on this pin can range from -0.3V to 36V with respect to GND regardless of VS used. The input is noninverting for the LT6703-3/LT6703HV-3, and inverting for the LT6703-2/LT6703HV-2. (See Datasheet)", 4 VS (power) "Supply Voltage. The parts are characterized for operation with 1.4V =< VS =< 18V with respect to GND.", 5 NC

## LTC1040CN
designator U?
Micropower Comparator, 2 Channels, 2.8 to 16 V, 0 to +70 degC, 18-pin PDIP (N18); Generic Part Number: LTC1040; Manufacturer: Linear Technology; PartNumber: LTC1040CN; Channels (#): 2; Prop Delay (us): 80; Supply Current (uA) Typical: 5.7; Vos (mV) Guaranteed: 0.75; Vos (mV) Typical: 0.3; Vs Max (V): 18; Vs Min (V): 1.4; DatasheetVersion: Rev A; PackageReference: N18; PackageDescription: 18-Pin PDIP, Body 23.37 x 6.48 mm, Pitch 2.54 mm; Supplier 1: Digi-Key; Supplier Part Number 1: LTC1040CN-ND; Features: Comparator; RoHS: N; Supply Voltage Range: 2.8 to 16 V; Mounting Technology: Through Hole; ComponentLink1Description: Manufacturer URL; ComponentLink1URL: http://www.linear.com/; ComponentLink2Description: Datasheet; ComponentLink2URL: http://cds.linear.com/docs/en/datasheet/1040fa.pdf; ComponentLink3Description: Package Specification; ComponentLink3URL: http://cds.linear.com/docs/en/packaging/05081510_I_N18.pdf
footprint LT-N18 (DIP, 18-Leads, Body 23.368x6.477 mm, Pitch 2.54 mm)
pins: 1 STROBE (in), 2 ON/~{OFF} (out), 3 ~{A+B} (out), 4 AOUT (out), 5 A1+ (in), 6 A1- (in), 7 A2+ (in), 8 A2- (in), 9 GND (power), 10 V- (power), 11 B2- (in), 12 B2+ (in), 13 B1- (in), 14 B1+ (in), 15 BOUT (out), 16 OSC, 17 VP-P (power), 18 V+ (power)

## LTC1040CN#PBF
designator U?
Micropower Comparator, 2 Channels, 2.8 to 16 V, 0 to +70 degC, 18-pin PDIP (N18); Generic Part Number: LTC1040; Manufacturer: Linear Technology; PartNumber: LTC1040CN#PBF; Channels (#): 2; Prop Delay (us): 80; Supply Current (uA) Typical: 5.7; Vos (mV) Guaranteed: 0.75; Vos (mV) Typical: 0.3; Vs Max (V): 18; Vs Min (V): 1.4; DatasheetVersion: Rev A; PackageReference: N18; PackageDescription: 18-Pin PDIP, Body 23.37 x 6.48 mm, Pitch 2.54 mm; Supplier 1: Digi-Key; Supplier Part Number 1: LTC1040CN#PBF-ND; Supplier 2: Newark; Supplier Part Number 2: 55M8865; Features: Comparator; RoHS: Y; Supply Voltage Range: 2.8 to 16 V; Mounting Technology: Through Hole; ComponentLink1Description: Manufacturer URL; ComponentLink1URL: http://www.linear.com/; ComponentLink2Description: Datasheet; ComponentLink2URL: http://cds.linear.com/docs/en/datasheet/1040fa.pdf; ComponentLink3Description: Package Specification; ComponentLink3URL: http://cds.linear.com/docs/en/packaging/05081510_I_N18.pdf
footprint LT-N18 (DIP, 18-Leads, Body 23.368x6.477 mm, Pitch 2.54 mm)
pins: 1 STROBE (in), 2 ON/~{OFF} (out), 3 ~{A+B} (out), 4 AOUT (out), 5 A1+ (in), 6 A1- (in), 7 A2+ (in), 8 A2- (in), 9 GND (power), 10 V- (power), 11 B2- (in), 12 B2+ (in), 13 B1- (in), 14 B1+ (in), 15 BOUT (out), 16 OSC, 17 VP-P (power), 18 V+ (power)

## LTC1040CSW
designator U?
Micropower Comparator, 2 Channels, 2.8 to 16 V, 0 to +70 degC, 18-pin SOP (SW18); Generic Part Number: LTC1040; Manufacturer: Linear Technology; PartNumber: LTC1040CSW; Channels (#): 2; Prop Delay (us): 80; Supply Current (uA) Typical: 5.7; Vos (mV) Guaranteed: 0.75; Vos (mV) Typical: 0.3; Vs Max (V): 18; Vs Min (V): 1.4; DatasheetVersion: Rev A; PackageReference: N18; PackageDescription: 18-Pin PDIP, Body 23.37 x 6.48 mm, Pitch 2.54 mm; Supplier 1: Digi-Key; Supplier Part Number 1: LTC1040CSW-ND; Features: Comparator; RoHS: N; Supply Voltage Range: 2.8 to 16 V; Mounting Technology: Through Hole; ComponentLink1Description: Manufacturer URL; ComponentLink1URL: http://www.linear.com/; ComponentLink2Description: Datasheet; ComponentLink2URL: http://cds.linear.com/docs/en/datasheet/1040fa.pdf; ComponentLink3Description: Package Specification; ComponentLink3URL: http://cds.linear.com/docs/en/packaging/05081510_I_N18.pdf
footprint LT-N18 (DIP, 18-Leads, Body 23.368x6.477 mm, Pitch 2.54 mm)
pins: 1 STROBE (in), 2 ON/~{OFF} (out), 3 ~{A+B} (out), 4 AOUT (out), 5 A1+ (in), 6 A1- (in), 7 A2+ (in), 8 A2- (in), 9 GND (power), 10 V- (power), 11 B2- (in), 12 B2+ (in), 13 B1- (in), 14 B1+ (in), 15 BOUT (out), 16 OSC, 17 VP-P (hiz), 18 V+ (power)

## LTC1040CSW#PBF
designator U?
Micropower Comparator, 2 Channels, 2.8 to 16 V, 0 to +70 degC, 18-pin Plastic SOP (SW18); Generic Part Number: LTC1040; Manufacturer: Linear Technology; PartNumber: LTC1040CSW#PBF; Channels (#): 2; Prop Delay (us): 80; Supply Current (uA) Typical: 5.7; Vos (mV) Guaranteed: 0.75; Vos (mV) Typical: 0.3; Vs Max (V): 18; Vs Min (V): 1.4; DatasheetVersion: Rev A; PackageReference: N18; PackageDescription: 18-Pin PDIP, Body 23.37 x 6.48 mm, Pitch 2.54 mm; Supplier 1: Digi-Key; Supplier Part Number 1: LTC1040CSW#PBF-ND; Supplier 2: Newark; Supplier Part Number 2: 55M8867; Features: Comparator; RoHS: Y; Supply Voltage Range: 2.8 to 16 V; Mounting Technology: Through Hole; ComponentLink1Description: Manufacturer URL; ComponentLink1URL: http://www.linear.com/; ComponentLink2Description: Datasheet; ComponentLink2URL: http://cds.linear.com/docs/en/datasheet/1040fa.pdf; ComponentLink3Description: Package Specification; ComponentLink3URL: http://cds.linear.com/docs/en/packaging/05081510_I_N18.pdf
footprint LT-N18 (DIP, 18-Leads, Body 23.368x6.477 mm, Pitch 2.54 mm)
pins: 1 STROBE (in), 2 ON/~{OFF} (out), 3 ~{A+B} (out), 4 AOUT (out), 5 A1+ (in), 6 A1- (in), 7 A2+ (in), 8 A2- (in), 9 GND (power), 10 V- (power), 11 B2- (in), 12 B2+ (in), 13 B1- (in), 14 B1+ (in), 15 BOUT (out), 16 OSC, 17 VP-P (hiz), 18 V+ (power)

## LTC1040CSW#TR
designator U?
Micropower Comparator, 2 Channels, 2.8 to 16 V, 0 to +70 degC, 18-pin SOP (SW18), Tape and Reel; Generic Part Number: LTC1040; Manufacturer: Linear Technology; PartNumber: LTC1040CSW#TR; Channels (#): 2; Prop Delay (us): 80; Supply Current (uA) Typical: 5.7; Vos (mV) Guaranteed: 0.75; Vos (mV) Typical: 0.3; Vs Max (V): 18; Vs Min (V): 1.4; DatasheetVersion: Rev A; PackageReference: N18; PackageDescription: 18-Pin PDIP, Body 23.37 x 6.48 mm, Pitch 2.54 mm; Supplier 1: Digi-Key; Supplier Part Number 1: LTC1040CSW#TR-ND; Features: Comparator; RoHS: N; Supply Voltage Range: 2.8 to 16 V; Mounting Technology: Through Hole; ComponentLink1Description: Manufacturer URL; ComponentLink1URL: http://www.linear.com/; ComponentLink2Description: Datasheet; ComponentLink2URL: http://cds.linear.com/docs/en/datasheet/1040fa.pdf; ComponentLink3Description: Package Specification; ComponentLink3URL: http://cds.linear.com/docs/en/packaging/05081510_I_N18.pdf
footprint LT-N18 (DIP, 18-Leads, Body 23.368x6.477 mm, Pitch 2.54 mm)
pins: 1 STROBE (in), 2 ON/~{OFF} (out), 3 ~{A+B} (out), 4 AOUT (out), 5 A1+ (in), 6 A1- (in), 7 A2+ (in), 8 A2- (in), 9 GND (power), 10 V- (power), 11 B2- (in), 12 B2+ (in), 13 B1- (in), 14 B1+ (in), 15 BOUT (out), 16 OSC, 17 VP-P (hiz), 18 V+ (power)

## LTC1040CSW#TRPBF
designator U?
Micropower Comparator, 2 Channels, 2.8 to 16 V, 0 to +70 degC, 18-pin SOP (SW18), Tape and Reel; Generic Part Number: LTC1040; Manufacturer: Linear Technology; PartNumber: LTC1040CSW#TRPBF; Channels (#): 2; Prop Delay (us): 80; Supply Current (uA) Typical: 5.7; Vos (mV) Guaranteed: 0.75; Vos (mV) Typical: 0.3; Vs Max (V): 18; Vs Min (V): 1.4; DatasheetVersion: Rev A; PackageReference: N18; PackageDescription: 18-Pin PDIP, Body 23.37 x 6.48 mm, Pitch 2.54 mm; Supplier 1: Digi-Key; Supplier Part Number 1: LTC1040CSW#TRPBF-ND; Features: Comparator; RoHS: Y; Supply Voltage Range: 2.8 to 16 V; Mounting Technology: Through Hole; ComponentLink1Description: Manufacturer URL; ComponentLink1URL: http://www.linear.com/; ComponentLink2Description: Datasheet; ComponentLink2URL: http://cds.linear.com/docs/en/datasheet/1040fa.pdf; ComponentLink3Description: Package Specification; ComponentLink3URL: http://cds.linear.com/docs/en/packaging/05081510_I_N18.pdf
footprint LT-N18 (DIP, 18-Leads, Body 23.368x6.477 mm, Pitch 2.54 mm)
pins: 1 STROBE (in), 2 ON/~{OFF} (out), 3 ~{A+B} (out), 4 AOUT (out), 5 A1+ (in), 6 A1- (in), 7 A2+ (in), 8 A2- (in), 9 GND (power), 10 V- (power), 11 B2- (in), 12 B2+ (in), 13 B1- (in), 14 B1+ (in), 15 BOUT (out), 16 OSC, 17 VP-P (hiz), 18 V+ (power)

## LTC1041CN8
designator U?
BANG-BANG Controller, 2 Channels, 2.8 to 18 V, 0 to +70 degC, 8-pin PDIP (N8); Generic Part Number: LTC1041; Manufacturer: Linear Technology; PartNumber: LTC1041CN8; Channels (#): 2; Prop Delay (us): 80; Supply Current (uA) Guaranteed: 3000; Supply Current (uA) Typical: 1200; Vos (mV) Typical: 0.5; Vs Max (V): 18; Vs Min (V): 1.4; DatasheetVersion: Rev A; PackageReference: N8; PackageDescription: 8-Pin PDIP, Row Spacing 7.62, Pitch 2.54 mm; Supplier 1: Digi-Key; Supplier Part Number 1: LTC1041CN8-ND; Features: Comparator; RoHS: N; Supply Voltage Range: 2.8 to 18 V; Mounting Technology: Through Hole; ComponentLink1Description: Manufacturer URL; ComponentLink1URL: http://www.linear.com/; ComponentLink2Description: Datasheet; ComponentLink2URL: http://cds.linear.com/docs/en/datasheet/1041fa.pdf; ComponentLink3Description: Package Specification; ComponentLink3URL: http://cds.linear.com/docs/en/packaging/05081510_I_N8.pdf
footprint LT-N8 (DIP, 8-Leads, Body 10.16x6.477mm, Pitch 2.54mm)
pins: 1 ON/~{OFF} (out), 2 VIN (in), 3 SET POINT (in), 4 GND (power), 5 DELTA (in), 6 OSC, 7 VP-P (power), 8 V+ (power)

## LTC1041CN8#PBF
designator U?
BANG-BANG Controller, 2 Channels, 2.8 to 18 V, 0 to +70 degC, 8-pin PDIP (N8); Generic Part Number: LTC1041; Manufacturer: Linear Technology; PartNumber: LTC1041CN8#PBF; Channels (#): 2; Prop Delay (us): 80; Supply Current (uA) Guaranteed: 3000; Supply Current (uA) Typical: 1200; Vos (mV) Typical: 0.5; Vs Max (V): 18; Vs Min (V): 1.4; DatasheetVersion: Rev A; PackageReference: N8; PackageDescription: 8-Pin PDIP, Row Spacing 7.62, Pitch 2.54 mm; Supplier 1: Digi-Key; Supplier Part Number 1: LTC1041CN8#PBF-ND; Supplier 2: Newark; Supplier Part Number 2: 55M8871; Features: Comparator; RoHS: Y; Supply Voltage Range: 2.8 to 18 V; Mounting Technology: Through Hole; ComponentLink1Description: Manufacturer URL; ComponentLink1URL: http://www.linear.com/; ComponentLink2Description: Datasheet; ComponentLink2URL: http://cds.linear.com/docs/en/datasheet/1041fa.pdf; ComponentLink3Description: Package Specification; ComponentLink3URL: http://cds.linear.com/docs/en/packaging/05081510_I_N8.pdf
footprint LT-N8 (DIP, 8-Leads, Body 10.16x6.477mm, Pitch 2.54mm)
pins: 1 ON/~{OFF} (out), 2 VIN (in), 3 SET POINT (in), 4 GND (power), 5 DELTA (in), 6 OSC, 7 VP-P (power), 8 V+ (power)

## LTC1041CS8
designator U?
BANG-BANG Controller, 2 Channels, 2.8 to 18 V, 0 to +70 degC, 8-pin SOP (S8); Generic Part Number: LTC1041; Manufacturer: Linear Technology; PartNumber: LTC1041CS8; Channels (#): 2; Prop Delay (us): 80; Supply Current (uA) Guaranteed: 3000; Supply Current (uA) Typical: 1200; Vos (mV) Typical: 0.5; Vs Max (V): 18; Vs Min (V): 1.4; DatasheetVersion: Rev A; PackageReference: S8; PackageDescription: 8-Pin Plastic Small Outline (Narrow .150 Inch), Body 4.9 x 3.9 mm, Pitch 1.27 mm; Supplier 1: Digi-Key; Supplier Part Number 1: LTC1041CS8-ND; Features: Comparator; RoHS: N; Supply Voltage Range: 2.8 to 18 V; Mounting Technology: Surface Mount; ComponentLink1Description: Manufacturer URL; ComponentLink1URL: http://www.linear.com/; ComponentLink2Description: Datasheet; ComponentLink2URL: http://cds.linear.com/docs/en/datasheet/1041fa.pdf; ComponentLink3Description: Package Specification; ComponentLink3URL: http://cds.linear.com/docs/en/packaging/05081610_G_SO8.pdf
footprint LT-S8_N (SOP, 8-Leads, Body 4.9x3.9mm, Pitch 1.27mm, IPC Medium Density)
footprint LT-S8_L (SOP, 8-Leads, Body 4.9x3.9mm, Pitch 1.27mm, IPC High Density)
footprint LT-S8_M (SOP, 8-Leads, Body 4.9x3.9mm, Pitch 1.27mm, IPC Low Density)
pins: 1 ON/~{OFF} (out), 2 VIN (in), 3 SET POINT (in), 4 GND (power), 5 DELTA (in), 6 OSC (in), 7 VP-P (out), 8 V+ (power)

## LTC1041CS8#PBF
designator U?
BANG-BANG Controller, 2 Channels, 2.8 to 18 V, 0 to +70 degC, 8-pin SOP (S8); Generic Part Number: LTC1041; Manufacturer: Linear Technology; PartNumber: LTC1041CS8#PBF; Channels (#): 2; Prop Delay (us): 80; Supply Current (uA) Guaranteed: 3000; Supply Current (uA) Typical: 1200; Vos (mV) Typical: 0.5; Vs Max (V): 18; Vs Min (V): 1.4; DatasheetVersion: Rev A; PackageReference: S8; PackageDescription: 8-Pin Plastic Small Outline (Narrow .150 Inch), Body 4.9 x 3.9 mm, Pitch 1.27 mm; Supplier 1: Digi-Key; Supplier Part Number 1: LTC1041CS8#PBF-ND; Supplier 2: Newark; Supplier Part Number 2: 55M8873; Features: Comparator; RoHS: Y; Supply Voltage Range: 2.8 to 18 V; Mounting Technology: Surface Mount; ComponentLink1Description: Manufacturer URL; ComponentLink1URL: http://www.linear.com/; ComponentLink2Description: Datasheet; ComponentLink2URL: http://cds.linear.com/docs/en/datasheet/1041fa.pdf; ComponentLink3Description: Package Specification; ComponentLink3URL: http://cds.linear.com/docs/en/packaging/05081610_G_SO8.pdf
footprint LT-S8_N (SOP, 8-Leads, Body 4.9x3.9mm, Pitch 1.27mm, IPC Medium Density)
footprint LT-S8_L (SOP, 8-Leads, Body 4.9x3.9mm, Pitch 1.27mm, IPC High Density)
footprint LT-S8_M (SOP, 8-Leads, Body 4.9x3.9mm, Pitch 1.27mm, IPC Low Density)
pins: 1 ON/~{OFF} (out), 2 VIN (in), 3 SET POINT (in), 4 GND (power), 5 DELTA (in), 6 OSC (in), 7 VP-P (out), 8 V+ (power)

## LTC1041CS8#TR
designator U?
BANG-BANG Controller, 2 Channels, 2.8 to 18 V, 0 to +70 degC, 8-pin SOP (S8), Tape and Reel; Generic Part Number: LTC1041; Manufacturer: Linear Technology; PartNumber: LTC1041CS8#TR; Channels (#): 2; Prop Delay (us): 80; Supply Current (uA) Guaranteed: 3000; Supply Current (uA) Typical: 1200; Vos (mV) Typical: 0.5; Vs Max (V): 18; Vs Min (V): 1.4; DatasheetVersion: Rev A; PackageReference: S8; PackageDescription: 8-Pin Plastic Small Outline (Narrow .150 Inch), Body 4.9 x 3.9 mm, Pitch 1.27 mm; Supplier 1: Digi-Key; Supplier Part Number 1: LTC1041CS8#TR-ND; Features: Comparator; RoHS: N; Supply Voltage Range: 2.8 to 18 V; Mounting Technology: Surface Mount; ComponentLink1Description: Manufacturer URL; ComponentLink1URL: http://www.linear.com/; ComponentLink2Description: Datasheet; ComponentLink2URL: http://cds.linear.com/docs/en/datasheet/1041fa.pdf; ComponentLink3Description: Package Specification; ComponentLink3URL: http://cds.linear.com/docs/en/packaging/05081610_G_SO8.pdf
footprint LT-S8_N (SOP, 8-Leads, Body 4.9x3.9mm, Pitch 1.27mm, IPC Medium Density)
footprint LT-S8_L (SOP, 8-Leads, Body 4.9x3.9mm, Pitch 1.27mm, IPC High Density)
footprint LT-S8_M (SOP, 8-Leads, Body 4.9x3.9mm, Pitch 1.27mm, IPC Low Density)
pins: 1 ON/~{OFF} (out), 2 VIN (in), 3 SET POINT (in), 4 GND (power), 5 DELTA (in), 6 OSC (in), 7 VP-P (out), 8 V+ (power)

## LTC1041CS8#TRPBF
designator U?
BANG-BANG Controller, 2 Channels, 2.8 to 18 V, 0 to +70 degC, 8-pin SOP (S8), Tape and Reel; Generic Part Number: LTC1041; Manufacturer: Linear Technology; PartNumber: LTC1041CS8#TRPBF; Channels (#): 2; Prop Delay (us): 80; Supply Current (uA) Guaranteed: 3000; Supply Current (uA) Typical: 1200; Vos (mV) Typical: 0.5; Vs Max (V): 18; Vs Min (V): 1.4; DatasheetVersion: Rev A; PackageReference: S8; PackageDescription: 8-Pin Plastic Small Outline (Narrow .150 Inch), Body 4.9 x 3.9 mm, Pitch 1.27 mm; Supplier 1: Digi-Key; Supplier Part Number 1: LTC1041CS8#TRPBF-ND; Features: Comparator; RoHS: Y; Supply Voltage Range: 2.8 to 18 V; Mounting Technology: Surface Mount; ComponentLink1Description: Manufacturer URL; ComponentLink1URL: http://www.linear.com/; ComponentLink2Description: Datasheet; ComponentLink2URL: http://cds.linear.com/docs/en/datasheet/1041fa.pdf; ComponentLink3Description: Package Specification; ComponentLink3URL: http://cds.linear.com/docs/en/packaging/05081610_G_SO8.pdf
footprint LT-S8_N (SOP, 8-Leads, Body 4.9x3.9mm, Pitch 1.27mm, IPC Medium Density)
footprint LT-S8_L (SOP, 8-Leads, Body 4.9x3.9mm, Pitch 1.27mm, IPC High Density)
footprint LT-S8_M (SOP, 8-Leads, Body 4.9x3.9mm, Pitch 1.27mm, IPC Low Density)
pins: 1 ON/~{OFF} (out), 2 VIN (in), 3 SET POINT (in), 4 GND (power), 5 DELTA (in), 6 OSC (in), 7 VP-P (out), 8 V+ (power)

## LTC1042CN8
designator U?
Window Comparator, 2 Channels, 2.8 to 18 V, 0 to +70 degC, 8-pin PDIP (N8); Generic Part Number: LTC1042; Manufacturer: Linear Technology; PartNumber: LTC1042CN8; Channels (#): 2; Prop Delay (us): 80; Supply Current (uA) Guaranteed: 3000; Supply Current (uA) Typical: 1200; Vos (mV) Typical: 0.5; Vs Max (V): 18; Vs Min (V): 1.4; DatasheetVersion: Rev A; PackageReference: N8; PackageDescription: 8-Pin PDIP, Row Spacing 7.62, Pitch 2.54 mm; Supplier 1: Digi-Key; Supplier Part Number 1: LTC1042CN8-ND; Features: Comparator, Window Comparator; RoHS: N; Supply Voltage Range: 2.8 to 18 V; Mounting Technology: Through Hole; ComponentLink1Description: Manufacturer URL; ComponentLink1URL: http://www.linear.com/; ComponentLink2Description: Datasheet; ComponentLink2URL: http://cds.linear.com/docs/en/datasheet/1042fa.pdf; ComponentLink3Description: Package Specification; ComponentLink3URL: http://cds.linear.com/docs/en/packaging/05081510_I_N8.pdf
footprint LT-N8 (DIP, 8-Leads, Body 10.16x6.477mm, Pitch 2.54mm)
pins: 1 WITHIN WINDOW (out), 2 CENTER (in), 3 VIN (in), 4 GND (power), 5 WIDTH/2 (in), 6 ABOVE WINDOW (out), 7 OSC (in), 8 V+ (power)

## LTC1042CN8#PBF
designator U?
Window Comparator, 2 Channels, 2.8 to 18 V, 0 to +70 degC, 8-pin PDIP (N8); Generic Part Number: LTC1042; Manufacturer: Linear Technology; PartNumber: LTC1042CN8#PBF; Channels (#): 2; Prop Delay (us): 80; Supply Current (uA) Guaranteed: 3000; Supply Current (uA) Typical: 1200; Vos (mV) Typical: 0.5; Vs Max (V): 18; Vs Min (V): 1.4; DatasheetVersion: Rev A; PackageReference: N8; PackageDescription: 8-Pin PDIP, Row Spacing 7.62, Pitch 2.54 mm; Supplier 1: Digi-Key; Supplier Part Number 1: LTC1042CN8#PBF-ND; Supplier 2: Farnell; Supplier Part Number 2: 2102612; Supplier 3: Newark; Supplier Part Number 3: 55M8877; Features: Comparator, Window Comparator; RoHS: Y; Supply Voltage Range: 2.8 to 18 V; Mounting Technology: Through Hole; ComponentLink1Description: Manufacturer URL; ComponentLink1URL: http://www.linear.com/; ComponentLink2Description: Datasheet; ComponentLink2URL: http://cds.linear.com/docs/en/datasheet/1042fa.pdf; ComponentLink3Description: Package Specification; ComponentLink3URL: http://cds.linear.com/docs/en/packaging/05081510_I_N8.pdf
footprint LT-N8 (DIP, 8-Leads, Body 10.16x6.477mm, Pitch 2.54mm)
pins: 1 WITHIN WINDOW (out), 2 CENTER (in), 3 VIN (in), 4 GND (power), 5 WIDTH/2 (in), 6 ABOVE WINDOW (out), 7 OSC (in), 8 V+ (power)